# Altium schematic symbol library TPS7B8133DGNR.SchLib: 1 symbol
Pins are listed as number, name and electrical type; pins without a type are passive.

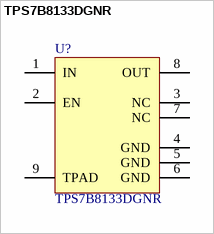
[diagram p0: symbol TPS7B8133DGNR]

## TPS7B8133DGNR
designator U?
IC REG LIN 3.3V 150MA HVSSOP-8; VOUT: 3V3; VIN: 3V - 40V; Line Regulation: 10 mV; Load Regulation: 20 mV; Package: HVSSOP-8; Output Current (max): 150 mA; ComponentLink1Description: Datasheet; ComponentLink1URL: https://www.ti.com/lit/ds/symlink/tps7b81.pdf?&ts=1589388582626; Supplier 1: Digi-Key; Supplier Part Number 1: 296-TPS7B8133DGNRCT-ND; PN: TPS7B8133DGNR; Footprint: TI-HVSSOP-8
footprint TI-HVSSOP-8 (TI Footprint for HVSSOP-8 With Thermal Pad)
pins: 1 IN, 2 EN, 3 NC, 4 GND, 5 GND, 6 GND, 7 NC, 8 OUT, 9 TPAD